# EAGLE library part 5037630491 (library PDUv2)
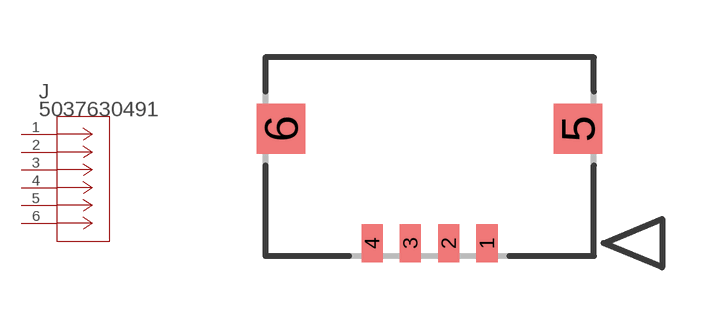
[diagram p1: symbol with the pads of CON_5037630491; footprint CON_5037630491]

Designator prefix J

## 5037630491 (BUILT_BY: Molex_Team; COPYRIGHT: Copyright (C) 2018 Accelerated Designs. All rights reserved; MANUFACTURER_PART_NUMBER: 5037630491; SOURCELIBRARY: Add_to_database_2021-03-17; VENDOR: Molex Connector Corporation)  [CON_5037630491]
1  1  pas
2  2  pas
3  3  pas
4  4  pas
5  5  pas
6  6  pas

## Footprint CON_5037630491 (pad centres in mm)
smd 0.55 x 1: 1 0,0; 2 -1,0; 3 -2,0; 4 -3,0
smd 1.26 x 1.3: 5 2.375,2.99; 6 -5.38,2.99